# Altium footprint library IC_Vishay_TSOP38238_eec_0.PcbLib: 1 footprints
Each footprint in its own frame and in the unit in brackets; x right, y up, seen from the top. Pads: shape width x height; smd on the part's side, far side on the other; paste and mask are expansions set on the pad; w line width, h text height; cw(c..) or ccw(c..) is an arc to the next point about the centre after c.
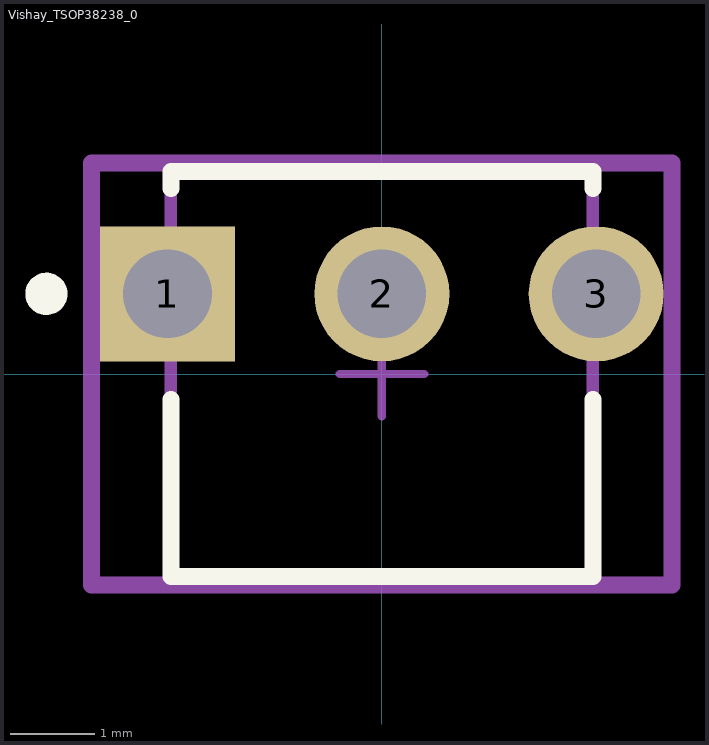
[diagram p0: the footprint, top view; thin cyan lines are the x and y axes]

## Vishay_TSOP38238_0 [mm]
pads (3):
  rect 1.6x1.6 hole 1.05 paste-1000 mask+0: 1(-2.54,0.95)
  round 1.6 hole 1.05 paste-1000 mask+0: 2(0,0.95) 3(2.54,0.95)
Top Overlay:
  circle w0.25: c-3.975,0.95 r0.125
  lines w0.2: -2.5,-0.3 -2.5,-2.4 2.5,-2.4 2.5,-0.3 ; -2.5,2.2 -2.5,2.4 2.5,2.4 2.5,2.2
Mechanical 10:
  lines w0.2: -3.44,-2.5 3.44,-2.5 3.44,2.5 -3.44,2.5 -3.44,-2.5
  text ".Designator" at 0,0 h1
Mechanical 12:
  lines w0.15: -2.5,-2.4 2.5,-2.4 2.5,2.4 -2.5,2.4 -2.5,-2.4
Mechanical 15:
  lines w0.1: -0.5,0 0.5,0 ; 0,-0.5 0,0.5
  lines w0.2: -3.44,-2.5 3.44,-2.5 3.44,2.5 -3.44,2.5 -3.44,-2.5
3D body "3dmodel.step": height 0.25, standoff 0, extent -3.44,-2.5 3.44,2.5